# EAGLE library part PDQE15-Q24-S5-D (library PDQE15-Q24-S5-D)
Isolated DC/DC Converters isolated, 15 W, 9 36 Vdc input, 5 Vdc, 3 A, single regulated output, DIP Source: Datasheet <https://datasheet.datasheetarchive.com/originals/distributors/Datasheets_SAMA/ceff7f1d3fd8bffed708cbd63eb61e9c.pdf>
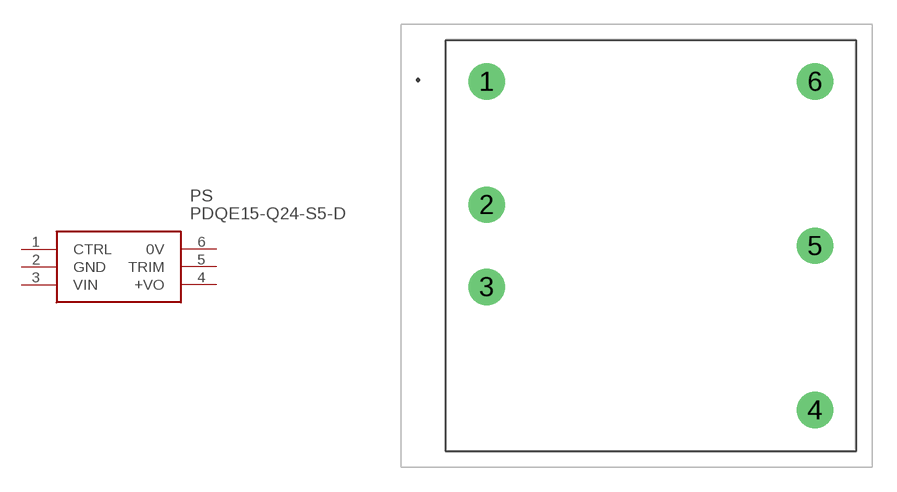
[diagram p0: symbol with the pads of PDQE15Q24S5D; footprint PDQE15Q24S5D]

Designator prefix PS

## PDQE15-Q24-S5-D (Arrow_Part_Number: PDQE15-Q24-S5-D; Arrow_Price-Stock: https://www.arrow.com/en/products/pdqe15-q24-s5-d/cui-inc?region=nac; Description: Isolated DC/DC Converters isolated, 15 W, 9 36 Vdc input, 5 Vdc, 3 A, single regulated output, DIP; Height: 12.2mm; Manufacturer_Name: CUI Inc.; Manufacturer_Part_Number: PDQE15-Q24-S5-D; Mouser_Part_Number: 490-PDQE15-Q24-S5-D; Mouser_Price-Stock: https://www.mouser.co.uk/ProductDetail/CUI-Inc/PDQE15-Q24-S5-D?qs=T3oQrply3y8yHnuOOP2Yow%3D%3D)  [PDQE15Q24S5D]
1  CTRL
2  GND
3  VIN
4  +VO
5  TRIM
6  0V

## Footprint PDQE15Q24S5D (pad centres in mm)
PDQE15-Q24-S5-D-1
drill 1.5 pad 2.25: 1 0,0; 2 0,-7.62; 3 0,-12.7; 4 20.32,-20.32; 5 20.32,-10.16; 6 20.32,0